# EAGLE library part MPU6050 (library MPU6050)
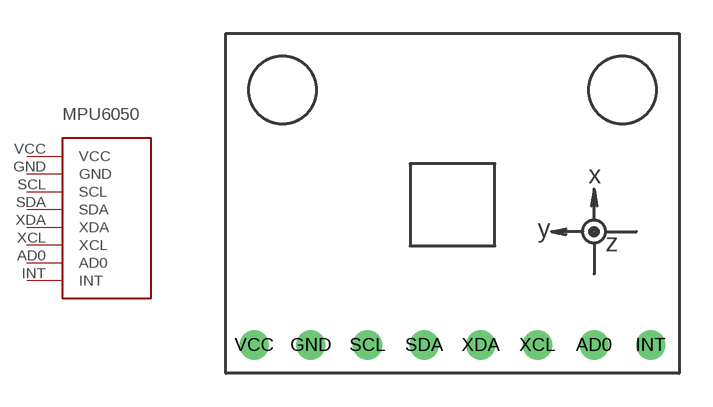
[diagram p0: symbol with the pads of MPU6050; footprint MPU6050]

Designator prefix MPU

## MPU6050  [MPU6050]
AD0  AD0
GND  GND
INT  INT
SCL  SCL
SDA  SDA
VCC  VCC
XCL  XCL
XDA  XDA

## Footprint MPU6050 (pad centres in mm)
drill 0.8: AD0 6.35,0; GND -6.35,0; INT 8.89,0; SCL -3.81,0; SDA -1.27,0; VCC -8.89,0; XCL 3.81,0; XDA 1.27,0